# Altium schematic symbol library STM32VET6_SCHLIB.SchLib: 33 symbols
Pins are listed as number, name and electrical type; pins without a type are passive.

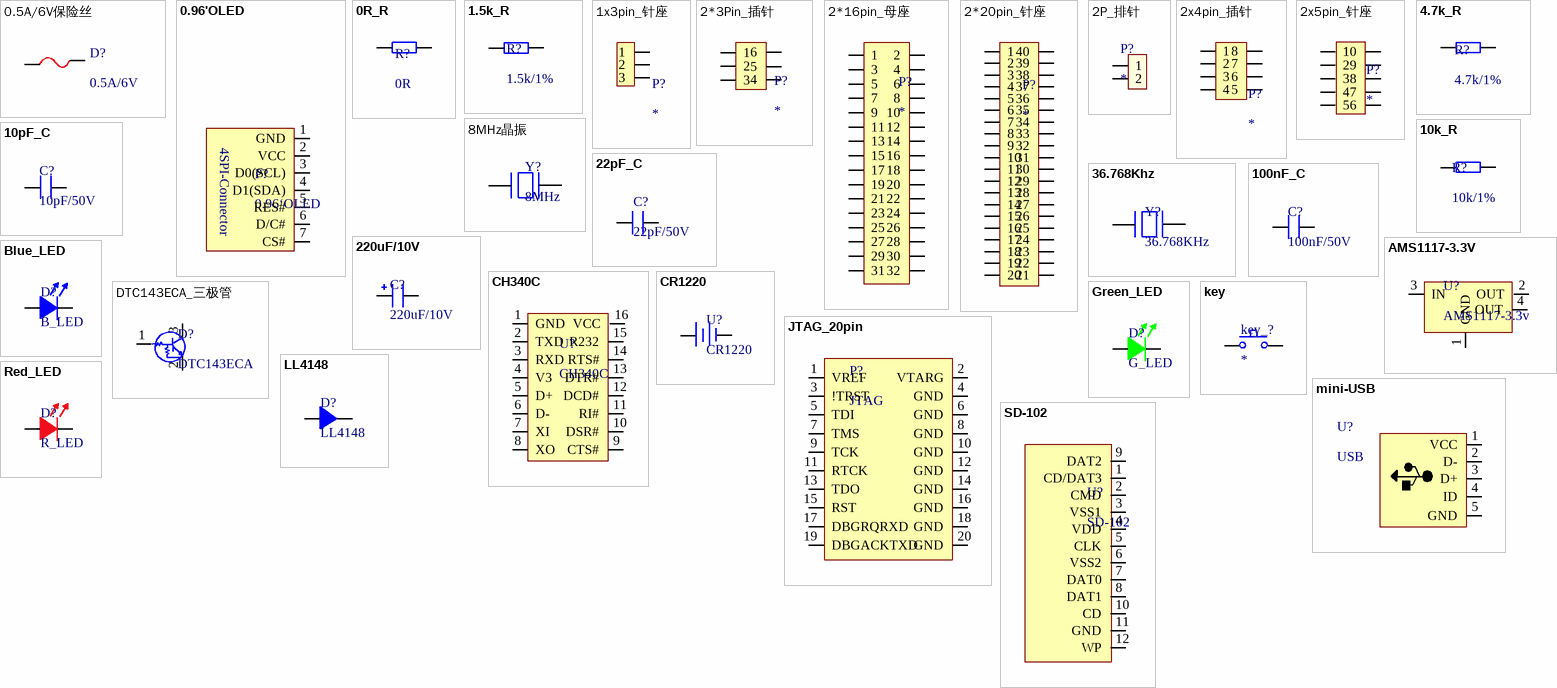
[diagram p0: symbols 0.5A/6V保险丝 to SD-102]

## 0.5A/6V保险丝
designator D?, comment 0.5A/6V
footprint 0805_D (Chip Diode, 2-Leads, Body 2.10x1.35mm, IPC Medium Density)
pins: 1, 2

## 0.96'OLED
designator P?, comment 0.96‘OLED
footprint 0.96'OLED (7脚)
pins: 1 GND, 2 VCC, 3 D0(SCL), 4 D1(SDA), 5 RES#, 6 D/C#, 7 CS#
text: 4SPI-Connector

## 0R_R
designator R?, comment 0R
footprint 0603_R (Chip Resistor, 2-Leads, Body 1.60x0.80mm, IPC Medium Density)
pins: 1, 2

## 1.5k_R
designator R?, comment 1.5k/1%
footprint 0603_R (Chip Resistor, 2-Leads, Body 1.60x0.80mm, IPC Medium Density)
pins: 1, 2

## 1x3pin_针座
designator P?
footprint HDR2.54-LI-3P (排针，3脚)
pins: 1, 2, 3

## 2*3Pin_插针
designator P?
footprint HDR2.54-LI-2x3P (双排排针，3x2脚)
pins: 1, 2, 3, 4, 5, 6

## 2*16pin_母座
designator P?
footprint HDR2.54-M-2x16P (双排排座，16x2脚)
pins: 1, 2, 3, 4, 5, 6, 7, 8, 9, 10, 11, 12, 13, 14, 15, 16, 17, 18, 19, 20, 21, 22, 23, 24, 25, 26, 27, 28, 29, 30, 31, 32

## 2*20pin_针座
designator P?
footprint HDR2.54-LI-2x20P (双排排针，20x2脚)
pins: 1, 2, 3, 4, 5, 6, 7, 8, 9, 10, 11, 12, 13, 14, 15, 16, 17, 18, 19, 20, 21, 22, 23, 24, 25, 26, 27, 28, 29, 30, 31, 32, 33, 34, 35, 36, 37, 38, 39, 40

## 2P_排针
designator P?
footprint HDR2.54-LI-2P (排针，2脚)
pins: 1, 2

## 2x4pin_插针
designator P?
footprint HDR2.54-LI-2x4P (双排排针，4x2脚)
pins: 1, 2, 3, 4, 5, 6, 7, 8

## 2x5pin_针座
designator P?
footprint HDR2.54-LI-2x5P (双排排针，5x2脚)
pins: 1, 2, 3, 4, 5, 6, 7, 8, 9, 10

## 4.7k_R
designator R?, comment 4.7k/1%
footprint 0603_R (Chip Resistor, 2-Leads, Body 1.60x0.80mm, IPC Medium Density)
pins: 1, 2

## 8MHz晶振
designator Y?, comment 8MHz
footprint 8Mhz (HC-49S8MHZ20PF30PPM)
pins: 1, 2

## 10k_R
designator R?, comment 10k/1%
footprint 0603_R (Chip Resistor, 2-Leads, Body 1.60x0.80mm, IPC Medium Density)
pins: 1, 2

## 10pF_C
designator C?, comment 10pF/50V
footprint 0603_C (50V)
pins: 1, 2

## 22pF_C
designator C?, comment 22pF/50V
footprint 0603_C (50V)
pins: 1, 2

## 36.768Khz
designator Y?, comment 36.768KHz
footprint 32.768Khz晶振 (3215_2脚贴片)
pins: 1, 2

## 100nF_C
designator C?, comment 100nF/50V
footprint 0603_C (Chip Capacitor, 2-Leads, Body 1.60x0.80mm, IPC Medium Density)
pins: 1, 2

## 220uF/10V
designator C?
6.3*5.4
footprint CT 6*6 - C (直径6mm，高6mm)
pins: 1, 2

## AMS1117-3.3V
designator U?, comment AMS1117-3.3v
footprint SOT-223
pins: 1 GND, 2 OUT, 3 IN, 4 OUT

## Blue_LED
designator D?, comment B_LED
footprint 0603_R (Chip Resistor, 2-Leads, Body 1.60x0.80mm, IPC Medium Density)
pins: 1, 2

## CH340C
designator U?
footprint SOP16 (（蒜米工坊）)
pins: 1 GND, 2 TXD, 3 RXD, 4 V3, 5 D+, 6 D-, 7 XI, 8 XO, 9 CTS#, 10 DSR#, 11 RI#, 12 DCD#, 13 DTR#, 14 RTS#, 15 R232, 16 VCC

## CR1220
designator U?
footprint CR1220 (纽扣电池座)
pins: 1, 2

## DTC143ECA_三极管
designator D?, comment DTC143ECA
footprint SOT23
pins: 1, 2, 3

## Green_LED
designator D?, comment G_LED
footprint 0603_R (Chip Resistor, 2-Leads, Body 1.60x0.80mm, IPC Medium Density)
pins: 1, 2

## JTAG_20pin
designator P?, comment JTAG
footprint DC-2.54-L-Z-20P (立式直插简牛插座，间距2.54（蒜米工坊）)
pins: 1 VREF, 2 VTARG, 3 !TRST, 4 GND, 5 TDI, 6 GND, 7 TMS, 8 GND, 9 TCK, 10 GND, 11 RTCK, 12 GND, 13 TDO, 14 GND, 15 RST, 16 GND, 17 DBGRQRXD, 18 GND, 19 DBGACKTXD, 20 GND

## key
designator key_?
footprint TSW SMD-3*6*5 (3*6*5mm)
pins: 1, 2

## LL4148
designator D?
footprint LL4148 (MELF Diode, 2-Leads, Body 3.45x1.45mm, IPC Medium Density)
pins: 1, 2

## mini-USB
designator U?, comment USB
footprint USB-MINI-5P (MINI型USB，7.9*7.5*4.1mm)
pins: 1 VCC, 2 D-, 3 D+, 4 ID, 5 GND

## Red_LED
designator D?, comment R_LED
footprint 0603_R (Chip Resistor, 2-Leads, Body 1.60x0.80mm, IPC Medium Density)
pins: 1, 2

## SD-102
designator U?
footprint SDCARD_L
pins: 1 CD/DAT3, 2 CMD, 3 VSS1, 4 VDD, 5 CLK, 6 VSS2, 7 DAT0, 8 DAT1, 9 DAT2, 10 CD, 11 GND, 12 WP

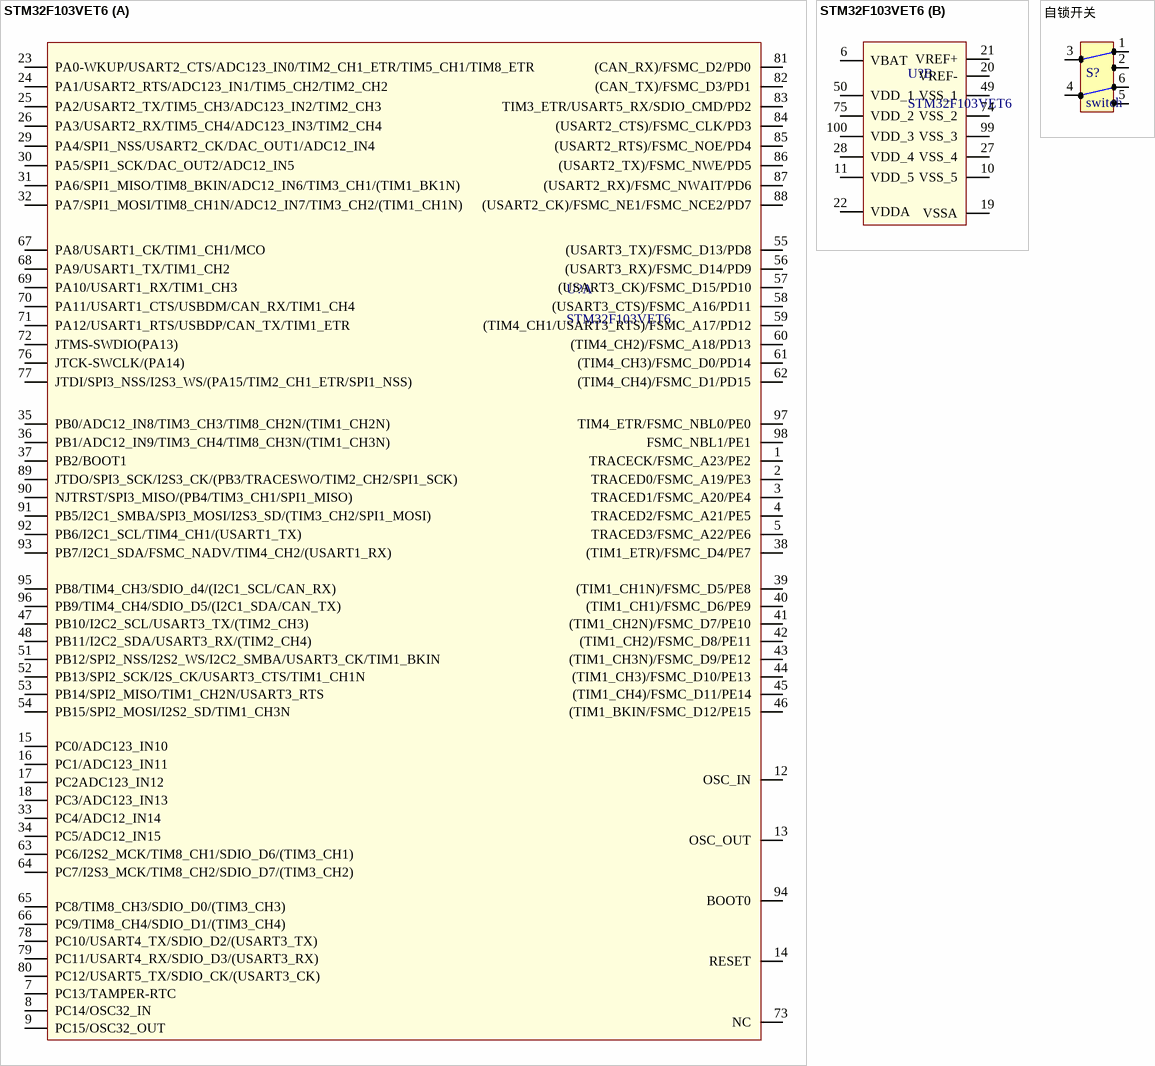
[diagram p1: symbols STM32F103VET6 to 自锁开关]

## STM32F103VET6
designator U?
LQFP100
footprint STM32F103VET6 (TSQFP, 100-Leads, Body 14.00x14.00mm, Pitch 0.50mm, IPC Medium Density)
part A pins: 1 TRACECK/FSMC_A23/PE2, 2 TRACED0/FSMC_A19/PE3, 3 TRACED1/FSMC_A20/PE4, 4 TRACED2/FSMC_A21/PE5, 5 TRACED3/FSMC_A22/PE6, 7 PC13/TAMPER-RTC, 8 PC14/OSC32_IN, 9 PC15/OSC32_OUT, 12 OSC_IN, 13 OSC_OUT, 14 RESET, 15 PC0/ADC123_IN10, 16 PC1/ADC123_IN11, 17 PC2ADC123_IN12, 18 PC3/ADC123_IN13, 23 PA0-WKUP/USART2_CTS/ADC123_IN0/TIM2_CH1_ETR/TIM5_CH1/TIM8_ETR, 24 PA1/USART2_RTS/ADC123_IN1/TIM5_CH2/TIM2_CH2, 25 PA2/USART2_TX/TIM5_CH3/ADC123_IN2/TIM2_CH3, 26 PA3/USART2_RX/TIM5_CH4/ADC123_IN3/TIM2_CH4, 29 PA4/SPI1_NSS/USART2_CK/DAC_OUT1/ADC12_IN4, 30 PA5/SPI1_SCK/DAC_OUT2/ADC12_IN5, 31 PA6/SPI1_MISO/TIM8_BKIN/ADC12_IN6/TIM3_CH1/(TIM1_BK1N), 32 PA7/SPI1_MOSI/TIM8_CH1N/ADC12_IN7/TIM3_CH2/(TIM1_CH1N), 33 PC4/ADC12_IN14, 34 PC5/ADC12_IN15, 35 PB0/ADC12_IN8/TIM3_CH3/TIM8_CH2N/(TIM1_CH2N), 36 PB1/ADC12_IN9/TIM3_CH4/TIM8_CH3N/(TIM1_CH3N), 37 PB2/BOOT1, 38 (TIM1_ETR)/FSMC_D4/PE7, 39 (TIM1_CH1N)/FSMC_D5/PE8, 40 (TIM1_CH1)/FSMC_D6/PE9, 41 (TIM1_CH2N)/FSMC_D7/PE10, 42 (TIM1_CH2)/FSMC_D8/PE11, 43 (TIM1_CH3N)/FSMC_D9/PE12, 44 (TIM1_CH3)/FSMC_D10/PE13, 45 (TIM1_CH4)/FSMC_D11/PE14, 46 (TIM1_BKIN/FSMC_D12/PE15, 47 PB10/I2C2_SCL/USART3_TX/(TIM2_CH3), 48 PB11/I2C2_SDA/USART3_RX/(TIM2_CH4), 51 PB12/SPI2_NSS/I2S2_WS/I2C2_SMBA/USART3_CK/TIM1_BKIN, 52 PB13/SPI2_SCK/I2S_CK/USART3_CTS/TIM1_CH1N, 53 PB14/SPI2_MISO/TIM1_CH2N/USART3_RTS, 54 PB15/SPI2_MOSI/I2S2_SD/TIM1_CH3N, 55 (USART3_TX)/FSMC_D13/PD8, 56 (USART3_RX)/FSMC_D14/PD9, 57 (USART3_CK)/FSMC_D15/PD10, 58 (USART3_CTS)/FSMC_A16/PD11, 59 (TIM4_CH1/USART3_RTS)/FSMC_A17/PD12, 60 (TIM4_CH2)/FSMC_A18/PD13, 61 (TIM4_CH3)/FSMC_D0/PD14, 62 (TIM4_CH4)/FSMC_D1/PD15, 63 PC6/I2S2_MCK/TIM8_CH1/SDIO_D6/(TIM3_CH1), 64 PC7/I2S3_MCK/TIM8_CH2/SDIO_D7/(TIM3_CH2), 65 PC8/TIM8_CH3/SDIO_D0/(TIM3_CH3), 66 PC9/TIM8_CH4/SDIO_D1/(TIM3_CH4), 67 PA8/USART1_CK/TIM1_CH1/MCO, 68 PA9/USART1_TX/TIM1_CH2, 69 PA10/USART1_RX/TIM1_CH3, 70 PA11/USART1_CTS/USBDM/CAN_RX/TIM1_CH4, 71 PA12/USART1_RTS/USBDP/CAN_TX/TIM1_ETR, 72 JTMS-SWDIO(PA13), 73 NC, 76 JTCK-SWCLK/(PA14), 77 JTDI/SPI3_NSS/I2S3_WS/(PA15/TIM2_CH1_ETR/SPI1_NSS), 78 PC10/USART4_TX/SDIO_D2/(USART3_TX), 79 PC11/USART4_RX/SDIO_D3/(USART3_RX), 80 PC12/USART5_TX/SDIO_CK/(USART3_CK), 81 (CAN_RX)/FSMC_D2/PD0, 82 (CAN_TX)/FSMC_D3/PD1, 83 TIM3_ETR/USART5_RX/SDIO_CMD/PD2, 84 (USART2_CTS)/FSMC_CLK/PD3, 85 (USART2_RTS)/FSMC_NOE/PD4, 86 (USART2_TX)/FSMC_NWE/PD5, 87 (USART2_RX)/FSMC_NWAIT/PD6, 88 (USART2_CK)/FSMC_NE1/FSMC_NCE2/PD7, 89 JTDO/SPI3_SCK/I2S3_CK/(PB3/TRACESWO/TIM2_CH2/SPI1_SCK), 90 NJTRST/SPI3_MISO/(PB4/TIM3_CH1/SPI1_MISO), 91 PB5/I2C1_SMBA/SPI3_MOSI/I2S3_SD/(TIM3_CH2/SPI1_MOSI), 92 PB6/I2C1_SCL/TIM4_CH1/(USART1_TX), 93 PB7/I2C1_SDA/FSMC_NADV/TIM4_CH2/(USART1_RX), 94 BOOT0, 95 PB8/TIM4_CH3/SDIO_d4/(I2C1_SCL/CAN_RX), 96 PB9/TIM4_CH4/SDIO_D5/(I2C1_SDA/CAN_TX), 97 TIM4_ETR/FSMC_NBL0/PE0, 98 FSMC_NBL1/PE1
part B pins: 6 VBAT, 10 VSS_5, 11 VDD_5, 19 VSSA, 20 VREF-, 21 VREF+, 22 VDDA, 27 VSS_4, 28 VDD_4, 49 VSS_1, 50 VDD_1, 74 VSS_2, 75 VDD_2, 99 VSS_3, 100 VDD_3

## 自锁开关
designator S?, comment switch
footprint KFT DIP-8X8 (自锁开关，规格：8*8mm)
pins: 1, 2, 3, 4, 5, 6